# EAGLE library part OPA350 (library opa350ua)
High-Speed, Single-Supply, Rail-to-Rail OPERATIONAL AMPLIFIERS MicroAmplifier Series
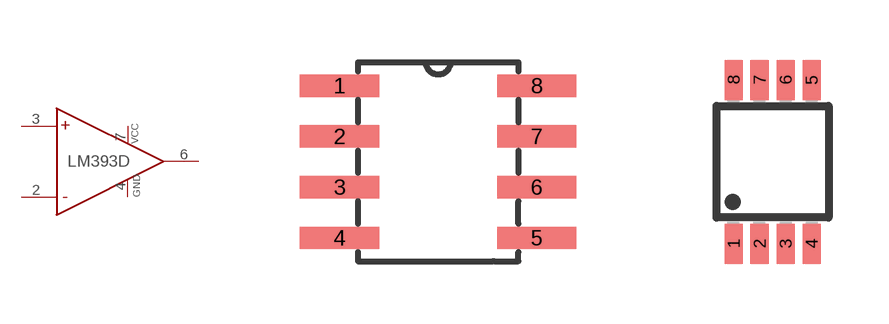
[diagram p1: symbol with the pads of SOIC127P600X175-8N; footprints SOIC127P600X175-8N, MSOP8]

Designator prefix IC; gates IC=OP_AMP P=PWR NC@1=NC NC@2=NC NC@3=NC

## OPA350UA (MPN: OPA350UA; OC_FARNELL: 1106197; OC_NEWARK: 35C1894; PACKAGE: SOIC-8; SUPPLIER: Texas Instruments)  [SOIC127P600X175-8N]
1  NC@1:NC  nc
2  IC:IN-  in
3  IC:IN+  in
4  P:GND  pwr
5  NC@2:NC  nc
6  IC:OUT  out
7  P:VCC  pwr
8  NC@3:NC  nc

## OPA350EA  [MSOP8]
Pads as for SOIC127P600X175-8N

## Footprint SOIC127P600X175-8N (pad centres in mm)
smd 1.981 x 0.559: 1 -2.464,1.905; 2 -2.464,0.635; 3 -2.464,-0.635; 4 -2.464,-1.905; 5 2.464,-1.905; 6 2.464,-0.635; 7 2.464,0.635; 8 2.464,1.905

## Footprint MSOP8 (pad centres in mm)
Micro Small Outline Package Grid .65mm
smd 0.45 x 1: 1 -0.975,-2.05; 2 -0.325,-2.05; 3 0.325,-2.05; 4 0.975,-2.05; 5 0.975,2.05; 6 0.325,2.05; 7 -0.325,2.05; 8 -0.975,2.05